# EAGLE library part LNA (library rs41)
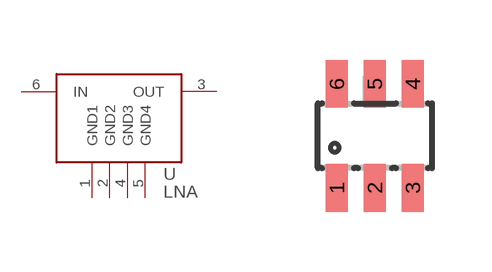
[diagram p10: symbol with the pads of SOT23-6; footprint SOT23-6]

Designator prefix U

## LNA  [SOT23-6]
1  GND1
2  GND2
3  OUT
4  GND3
5  GND4
6  IN

## Footprint SOT23-6 (pad centres in mm)
smd 0.55 x 1.2: 1 -0.95,-1.3; 2 0,-1.3; 3 0.95,-1.3; 4 0.95,1.3; 5 0,1.3; 6 -0.95,1.3